# Altium footprint library amplifier.PcbLib: 8 footprints
Each footprint in its own frame and in the unit in brackets; x right, y up, seen from the top. Pads: shape width x height; smd on the part's side, far side on the other; paste and mask are expansions set on the pad; w line width, h text height; cw(c..) or ccw(c..) is an arc to the next point about the centre after c.
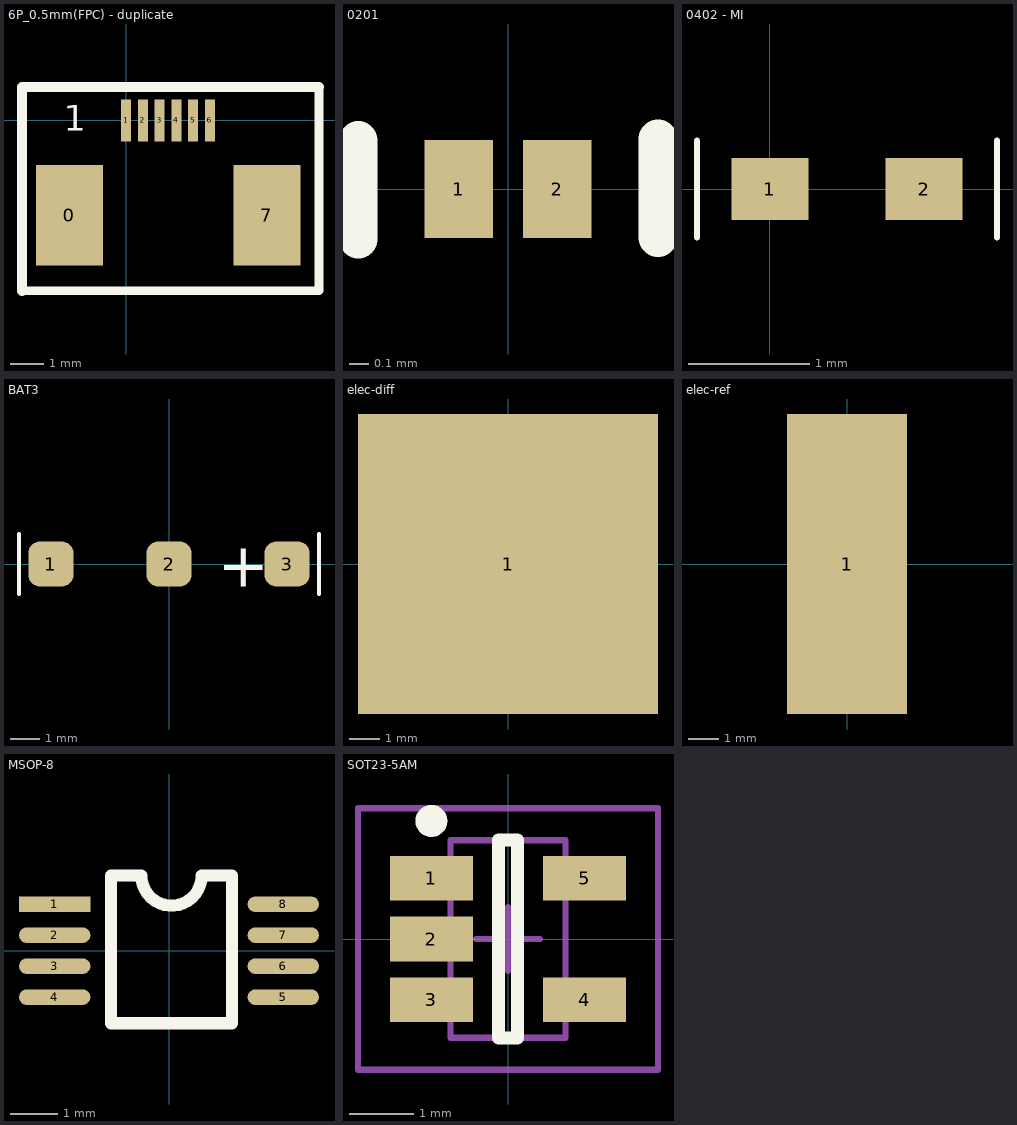
[diagram p0: the footprints below, top view; thin cyan lines are the x and y axes]

## 6P_0.5mm(FPC) - duplicate [mm]
height 2
pads (8):
  rect 2x3 smd: 0(-1.69,-2.825) 7(4.2,-2.825)
  rect 0.3x1.25 smd mask+0.051: 1(0,0) 2(0.5,0) 3(1,0) 4(1.5,0) 5(2,0) 6(2.5,0)
Top Overlay:
  lines w0.254: -3.1,-5.08 -0.887,-5.08 0.219,-5.08 2.431,-5.08 3.538,-5.08 5.75,-5.08 5.75,0.988
  lines w0.3: -3.1,-5.08 -3.1,0.988 5.75,0.988
  text "1" at -1.85,-0.312 h0.76

## 0201 [mm]
height 2
pads (2):
  rect 0.35x0.5 smd: 1(-0.25,0) 2(0.25,0)
Top Overlay:
  lines w0.2: -0.762,-0.254 -0.762,0.246 ; 0.762,-0.246 0.762,0.254

## 0402 - MI [mil]
height 78.74
pads (2):
  rect 25x20 smd: 1(0,0) 2(50,0)
Top Overlay:
  lines w2: -23.62,-15.75 -23.62,15.75 ; 73.62,-15.75 73.62,15.75

## BAT3 [mil]
height 78.74
pads (3):
  rrect50% 60x60 smd: 1(-157.48,0) 2(0,0) 3(157.48,0)
Top Overlay:
  lines w5.91: -200,-40 -200,40 ; 200,-40 200,40
  text "+" at 65,-30 h60

## elec-diff [mm] "12*5mm"
height 2
pads (1):
  rect 10x10 smd: 1(0,0)

## elec-ref [mm] "12*5mm"
height 2
pads (1):
  rect 4x10 smd: 1(0,0)

## MSOP-8 [mm]
height 2
pads (8):
  rect 1.5x0.325 smd: 1(-2.4,0.975)
  oval 1.5x0.325 smd: 2(-2.4,0.325) 3(-2.4,-0.325) 4(-2.4,-0.975) 5(2.4,-0.975) 6(2.4,-0.325) 7(2.4,0.325) 8(2.4,0.975)
Top Overlay:
  lines w0.254: -1.217,-1.525 -1.217,1.58 -0.582,1.58 ccw(c0.053,1.58) 0.688,1.58 1.323,1.58 1.323,-1.525 -1.217,-1.525

## SOT23-5AM [mm] "SOT23, 5-Leads, Body 2.9x1.7mm, Pitch 0.95mm, Lead Span 2.8mm, IPC Low Density"
height 1.45
pads (5):
  rect 1.3x0.7 smd: 1(-1.2,0.95) 2(-1.2,0) 3(-1.2,-0.95) 4(1.2,-0.95) 5(1.2,0.95)
Top Overlay:
  circle w0.25: c-1.2,1.85 r0.125
  lines w0.2: -0.15,-1.55 -0.15,1.55 0.15,1.55 0.15,-1.55 -0.15,-1.55
Mechanical 13:
  lines w0.1: -0.9,-1.55 0.9,-1.55 0.9,1.55 -0.9,1.55 -0.9,-1.55
Mechanical 15:
  lines w0.1: -0.5,0 0.5,0 ; 0,-0.5 0,0.5 ; -2.35,-2.05 2.35,-2.05 2.35,2.05 -2.35,2.05 -2.35,-2.05
3D body: height 1.45, standoff 0, extent -0.9,-1.55 0.9,1.55